# Altium schematic symbol library TXS0101DBVR.SchLib: 1 symbol
Pins are listed as number, name and electrical type; pins without a type are passive.

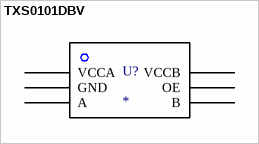
[diagram p0: symbol TXS0101DBV]

## TXS0101DBV
designator U?
Manufacturer: Texas Instruments; PartDescription: IC TRNSLTR BIDIRECTIONAL SOT23-6; PartNumber: TXS0101DBV; Package Type: SOT 23-6; Supplier 1: Digi-Key; Supplier Part Number 1: 296-22863-1-ND
footprint SOT23-6
pins: 1 VCCA, 2 GND, 3 A, 4 B, 5 OE, 6 VCCB